# Altium integrated library USB.IntLib: 6 symbols
Pins are listed as number, name and electrical type; pins without a type are passive.

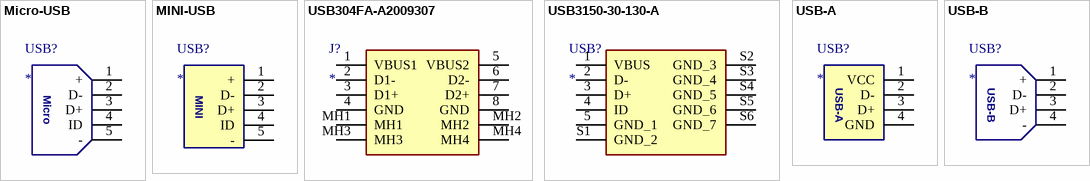
[diagram p0: symbols Micro-USB to USB-B]

## Micro-USB
designator USB?
footprint USB-MICRO_A
footprint USB-MICRO_D
footprint USB-micro_B
footprint USB-micro_C
pins: 1 +, 2 D-, 3 D+, 4 ID, 5 -
text: Micro

## MINI-USB
designator USB?
footprint USB-MINI-A
pins: 1 +, 2 D-, 3 D+, 4 ID, 5 -
text: MINI

## USB304FA-A2009307
designator J?
USB A/F 双层 USBConnector; Manufacturer_Name: ATOM; Manufacturer_Part_Number: USB304FA-A2009307; Datasheet Link: http://www.asia-atom.com/downloadRepository/8422aaaf-2a97-4da6-8963-74fc8641f0ac.pdf; Height: 15.55mm
footprint USB304FAA2009307
pins: 1 VBUS1, 2 D1-, 3 D1+, 4 GND, 5 VBUS2, 6 D2-, 7 D2+, 8 GND, MH1, MH2, MH3, MH4

## USB3150-30-130-A
designator USB?
Connector 直插USB 公头; Manufacturer_Name: GLOBAL CONNECTOR TECHNOLOGY; Manufacturer_Part_Number: USB3150-30-130-A; Description: USB3150 - Micro USB 2.0 Connector; Datasheet Link: https://gct.co/files/drawings/usb3150.pdf; Height: 7.23mm
footprint USB315030130A
pins: 1 VBUS, 2 D-, 3 D+, 4 ID, 5 GND_1, S1 GND_2, S2 GND_3, S3 GND_4, S4 GND_5, S5 GND_6, S6 GND_7

## USB-A
designator USB?
footprint USB-A/S_A
footprint USB-A/S_B
footprint USB-A/S_C
footprint USB-A/S_D
footprint USB-A/S_E
footprint USB-A/S_F
footprint USB_A/P_A
footprint USB_A/P_B
pins: 1 VCC, 2 D-, 3 D+, 4 GND

## USB-B
designator USB?
footprint USB-B/S_A
pins: 1 +, 2 D-, 3 D+, 4 -